# Altium footprint library 400150.PcbLib: 47 footprints (part 3 of 3)
Each footprint in its own frame and in the unit in brackets; x right, y up, seen from the top. Pads: shape width x height; smd on the part's side, far side on the other; paste and mask are expansions set on the pad; w line width, h text height; cw(c..) or ccw(c..) is an arc to the next point about the centre after c.
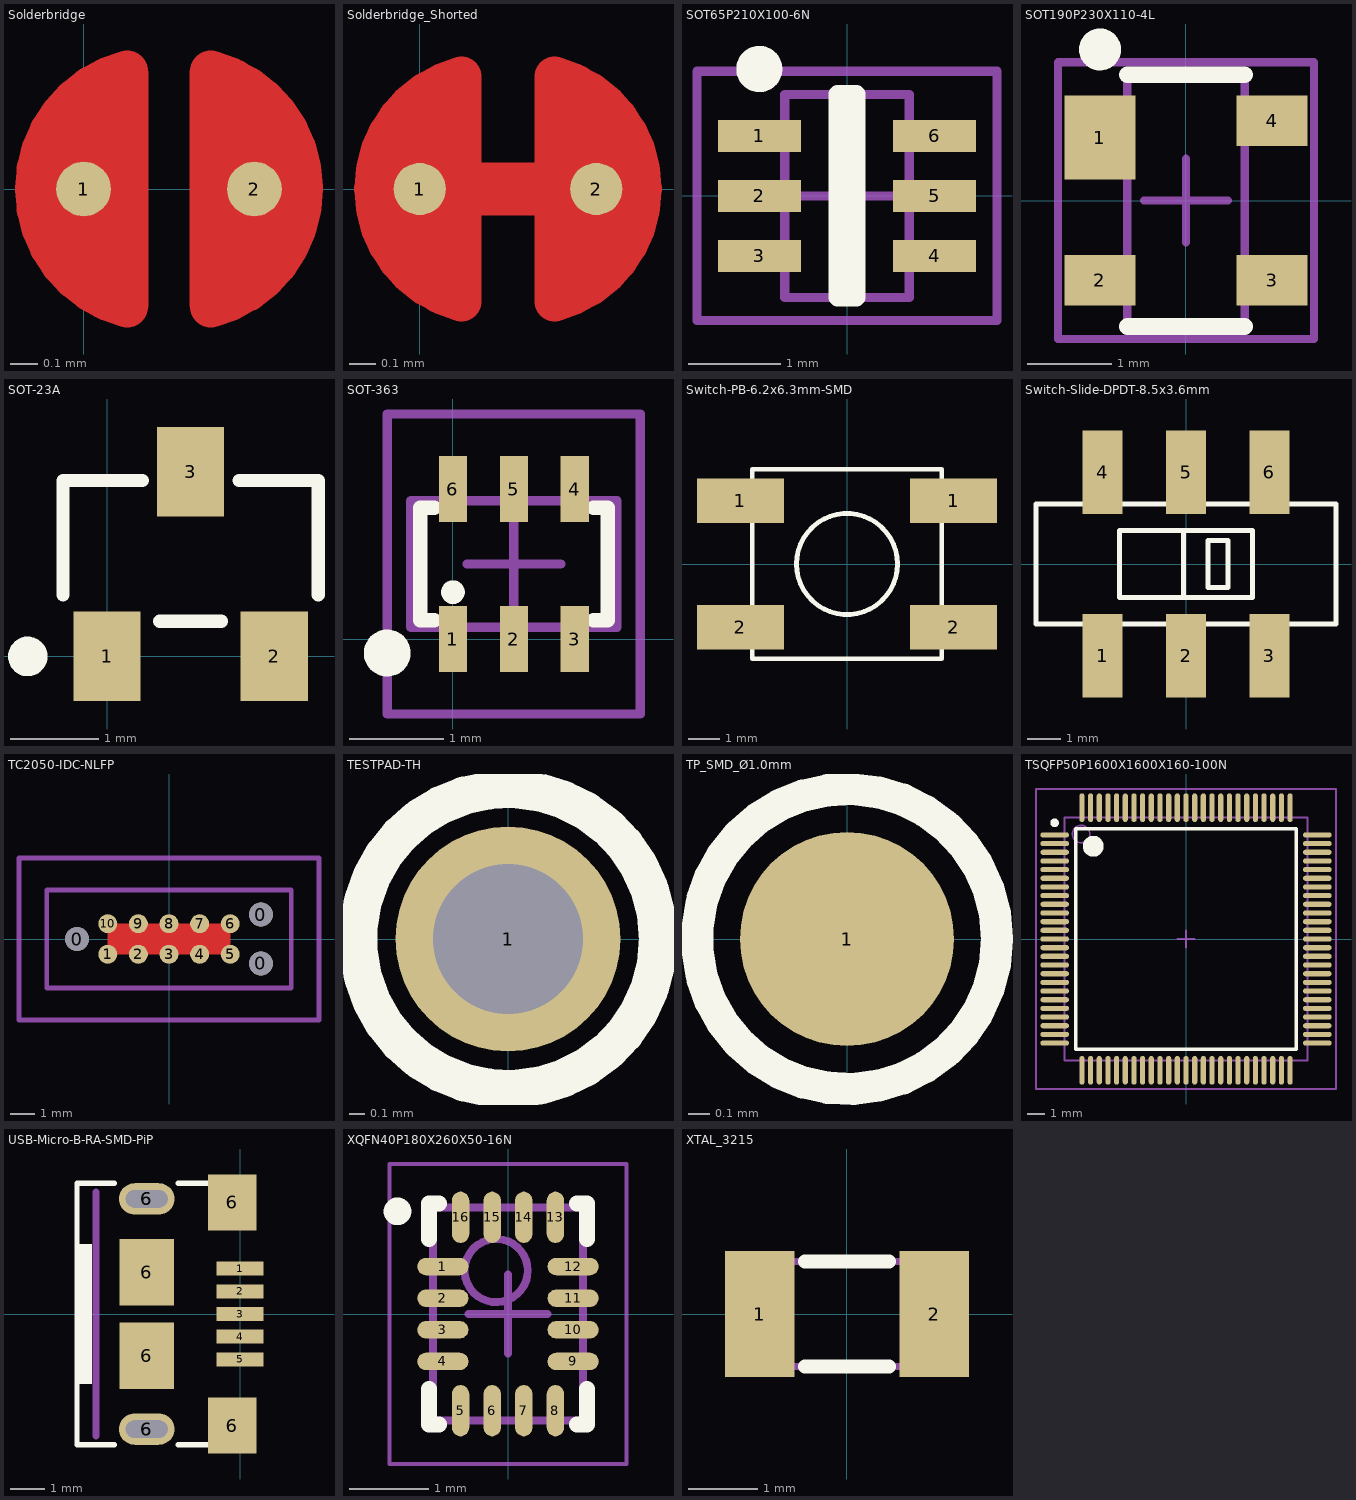
[diagram p2: the footprints below, top view; thin cyan lines are the x and y axes]

## Solderbridge [mm]
pads (2):
  round 0.2 smd paste-10: 1(0,0) 2(0.625,0)
Top Layer:
  region: 0.236,-0.432 0.16,-0.505 0.042,-0.467 -0.023,-0.424 -0.097,-0.351 -0.15,-0.292 -0.208,-0.193 -0.236,-0.099 -0.231,0.122 -0.206,0.193 -0.122,0.33 -0.038,0.411 0.054,0.469 0.155,0.5 0.206,0.483 0.236,0.43
  region: 0.389,0.432 0.465,0.505 0.583,0.467 0.648,0.424 0.721,0.351 0.775,0.292 0.833,0.193 0.861,0.099 0.856,-0.122 0.831,-0.193 0.747,-0.33 0.663,-0.411 0.571,-0.469 0.47,-0.5 0.419,-0.483 0.389,-0.43
  lines w0.152: 0.159,-0.431 cw(c0.27,0) -0.175,0 cw(c0.27,0) 0.025,0.371 cw(c0.27,0) 0.159,0.431 ; 0.465,-0.431 ccw(c0.355,0) 0.774,0.149 ccw(c0.355,0) 0.465,0.431
Top Solder:
  circle w0.61: c0.31,0 r0.279

## Solderbridge_Shorted [mm]
pads (2):
  round 0.2 smd paste-10: 1(0,0) 2(0.676,0)
Top Layer:
  region: 0.44,0.432 0.516,0.505 0.634,0.467 0.699,0.424 0.772,0.351 0.826,0.292 0.884,0.193 0.912,0.099 0.907,-0.122 0.881,-0.193 0.798,-0.33 0.714,-0.411 0.622,-0.469 0.521,-0.5 0.47,-0.483 0.44,-0.43
  region: 0.236,-0.432 0.16,-0.505 0.042,-0.467 -0.023,-0.424 -0.097,-0.351 -0.15,-0.292 -0.208,-0.193 -0.236,-0.099 -0.231,0.122 -0.206,0.193 -0.122,0.33 -0.038,0.411 0.054,0.469 0.155,0.5 0.206,0.483 0.236,0.43
  lines w0.152: 0.159,-0.431 cw(c0.27,0) 0.159,0.431 ; 0.516,-0.431 ccw(c0.406,0) 0.516,0.431
  lines w0.203: 0,0 0.676,0
Top Solder:
  circle w0.61: c0.31,0 r0.279
  circle w0.61: c0.366,0 r0.279

## SOT65P210X100-6N [mm]
pads (6):
  rect 0.9x0.35 smd: 1(-0.95,0.65) 2(-0.95,0) 3(-0.95,-0.65) 4(0.95,-0.65) 5(0.95,0) 6(0.95,0.65)
Top Overlay:
  circle w0.25: c-0.95,1.375 r0.125
  lines w0.2: -0.1,-1.1 -0.1,1.1 0.1,1.1 0.1,-1.1 -0.1,-1.1
Mechanical 13:
  lines w0.1: -0.675,-1.1 0.675,-1.1 0.675,1.1 -0.675,1.1 -0.675,-1.1
Mechanical 15:
  lines w0.1: -0.5,0 0.5,0 ; 0,-0.5 0,0.5 ; -1.625,-1.35 1.625,-1.35 1.625,1.35 -1.625,1.35 -1.625,-1.35
3D body: height 0.92, standoff -0.03, extent -1.05,-1 1.05,1

## SOT190P230X110-4L [mm]
pads (4):
  rect 0.85x1 smd: 1(-1.025,0.75)
  rect 0.85x0.6 smd: 2(-1.025,-0.95) 3(1.025,-0.95) 4(1.025,0.95)
Top Overlay:
  circle w0.25: c-1.025,1.8 r0.125
  lines w0.2: -0.7,-1.5 0.7,-1.5 ; -0.7,1.5 0.7,1.5
Mechanical 13:
  lines w0.1: -0.7,-1.5 -0.7,1.5 0.7,1.5 0.7,-1.5 -0.7,-1.5
Mechanical 15:
  lines w0.1: -0.5,0 0.5,0 ; 0,-0.5 0,0.5 ; -1.525,-1.65 -1.525,1.65 1.525,1.65 1.525,-1.65 -1.525,-1.65
3D body: height 1, standoff 0, extent -1.21,-1.46 1.21,1.46

## SOT-23A [mil]
pads (3):
  rect 30x40 smd: 1(0,0) 2(74.8,0) 3(37.4,82.68)
Top Overlay:
  circle w9.84: c-35.43,0 r3.94
  lines w5.91: -19.68,27.56 -19.68,78.74 15.75,78.74 ; 23.62,15.75 51.18,15.75 ; 59.06,78.74 94.49,78.74 94.49,27.56
3D body: height 39.37, standoff 0, extent -20.07,-4.72 94.89,87.41

## SOT-363 [mm]
pads (6):
  rect 0.3x0.7 smd: 1(0,0) 2(0.65,0) 3(1.3,0) 4(1.3,1.6) 5(0.65,1.6) 6(0,1.6)
Top Overlay:
  circle w0.152: c0,0.5 r0.05
  circle w0.25: c-0.7,-0.15 r0.125
  lines w0.152: -0.2,0.2 -0.35,0.2 -0.35,1.4 -0.2,1.4 ; 1.5,0.2 1.65,0.2 1.65,1.4 1.5,1.4
Mechanical 13:
  lines w0.1: -0.45,0.125 1.75,0.125 1.75,1.475 -0.45,1.475 -0.45,0.125
Mechanical 15:
  lines w0.1: 0.15,0.8 1.15,0.8 ; 0.65,0.3 0.65,1.3 ; -0.7,-0.8 2,-0.8 2,2.4 -0.7,2.4 -0.7,-0.8
3D body: height 0.93, standoff -0.02, extent -0.35,-0.25 1.65,1.85

## Switch-PB-6.2x6.3mm-SMD [mm]
pads (4):
  rect 2.75x1.4 smd: 1(-3.375,2) 1(3.375,2) 2(-3.375,-2) 2(3.375,-2)
Top Overlay:
  circle w0.152: c0,0 r1.601
  lines w0.152: -3,-3 3,-3 3,3 -3,3 -3,-3
3D body: height 3.1, standoff 0, extent -4,-3 4,3.3

## Switch-Slide-DPDT-8.5x3.6mm [mm]
pads (6):
  rect 1.2x2.5 smd: 1(-2.5,-2.75) 2(0,-2.75) 3(2.5,-2.75) 4(-2.5,2.75) 5(0,2.75) 6(2.5,2.75)
Top Overlay:
  lines w0.152: -0.08,-1 -0.08,1 ; 1.24,0.7 0.66,0.7 0.66,-0.7 1.26,-0.7 1.26,0.7 ; -4.5,-1.8 4.5,-1.8 4.5,1.8 -4.5,1.8 -4.5,-1.8 ; -2,-1 2,-1 2,1 -2,1 -2,-1
3D body: height 3.48, standoff 3, extent -2,1 2,1.8
3D body: height 3.48, standoff 3, extent -2,-1.8 2,-1
3D body: height 3.48, standoff 3, extent 2,-1.8 4.5,1.8
3D body: height 3.5, standoff 3.48, extent 2,-1 4.5,1
3D body: height 3.5, standoff 3.48, extent -4.5,-1.8 4.5,-1
3D body: height 3.5, standoff 3.48, extent -4.5,-1 -2,1
3D body: height 0.9, standoff 0, extent 2.2,-1.825 2.8,-1.675
3D body: height 0.15, standoff 0, extent 2.2,-3.75 2.8,-1.8
3D body: height 0.15, standoff 0, extent -0.3,-3.75 0.3,-1.8
3D body: height 0.9, standoff 0, extent -0.3,-1.825 0.3,-1.675
3D body: height 0.15, standoff 0, extent -2.8,-3.75 -2.2,-1.8
3D body: height 0.9, standoff 0, extent -2.8,-1.825 -2.2,-1.675
3D body: height 0.15, standoff 0, extent -4.2,1.2 -3.9,1.5
3D body: height 0.15, standoff 0, extent 3.9,1.2 4.2,1.5
3D body: height 0.15, standoff 0, extent 3.9,-1.5 4.2,-1.2
3D body: height 0.15, standoff 0, extent -4.2,-1.5 -3.9,-1.2
3D body: height 3, standoff 0.9, extent -4.5,-1.8 4.5,1.8
3D body: height 3.05, standoff 3, extent -2,-1 2,1
3D body: height 5.5, standoff 1.75, extent -0.08,-1 2,1
3D body: height 3.48, standoff 3, extent -4.5,-1.8 -2,1.8
3D body: height 3.5, standoff 2.63, extent 4.5,-1.2 4.52,1.2
3D body: height 2.63, standoff 1.75, extent 4.5,-1.7 4.52,1.7
3D body: height 2.63, standoff 1.75, extent -4.52,-1.7 -4.5,1.7
3D body: height 3.5, standoff 2.63, extent -4.52,-1.2 -4.5,1.2
3D body: height 0.9, standoff 0, extent 2.2,1.675 2.8,1.825
3D body: height 0.15, standoff 0, extent 2.2,1.8 2.8,3.75
3D body: height 0.9, standoff 0, extent -0.3,1.675 0.3,1.825
3D body: height 0.15, standoff 0, extent -0.3,1.8 0.3,3.75
3D body: height 3.5, standoff 3.48, extent -4.5,1 4.5,1.8
3D body: height 0.15, standoff 0, extent -2.8,1.8 -2.2,3.75
3D body: height 0.9, standoff 0, extent -2.8,1.675 -2.2,1.825
3D body: height 0.9, standoff 0.15, extent -4.3,-1.6 4.3,1.675

## TC2050-IDC-NLFP [mil]
pads (13):
  round 39 hole 39 unplated: 0(-150,0) 0(150,-40) 0(150,40)
  round 31 smd paste-196.85: 1(-100,-25) 2(-50,-25) 3(0,-25) 4(50,-25) 5(100,-25) 6(100,25) 7(50,25) 8(0,25) 9(-50,25) 10(-100,25)
Top Layer:
  pour cut-out: -100,25 -100,-25 100,-25 100,25
Mechanical 15:
  lines w7.87: -245,-132.5 -245,132.5 245,132.5 245,-132.5 -245,-132.5 ; -199.8,-79.92 -199.8,79.92 199.8,79.92 199.8,-79.92 -199.8,-79.92

## TESTPAD-TH [mm]
pads (1):
  round 1.5 hole 1: 1(0,0)
Top Overlay:
  circle w0.254: c0,0 r1

## TP_SMD_Ø1.0mm [mm]
pads (1):
  round 1 smd paste-5: 1(0,0)
Top Overlay:
  circle w0.15: c0,0 r0.7

## TSQFP50P1600X1600X160-100N [mm]
pads (100):
  oval 1.65x0.3 smd: 1(-7.575,6) 2(-7.575,5.5) 3(-7.575,5) 4(-7.575,4.5) 5(-7.575,4) 6(-7.575,3.5) 7(-7.575,3) 8(-7.575,2.5) 9(-7.575,2) 10(-7.575,1.5) 11(-7.575,1) 12(-7.575,0.5) 13(-7.575,0) 14(-7.575,-0.5) 15(-7.575,-1) 16(-7.575,-1.5) 17(-7.575,-2) 18(-7.575,-2.5) 19(-7.575,-3) 20(-7.575,-3.5) 21(-7.575,-4) 22(-7.575,-4.5) 23(-7.575,-5) 24(-7.575,-5.5) 25(-7.575,-6) 51(7.575,-6) 52(7.575,-5.5) 53(7.575,-5) 54(7.575,-4.5) 55(7.575,-4) 56(7.575,-3.5) 57(7.575,-3) 58(7.575,-2.5) 59(7.575,-2) 60(7.575,-1.5) 61(7.575,-1) 62(7.575,-0.5) 63(7.575,0) 64(7.575,0.5) 65(7.575,1) 66(7.575,1.5) 67(7.575,2) 68(7.575,2.5) 69(7.575,3) 70(7.575,3.5) 71(7.575,4) 72(7.575,4.5) 73(7.575,5) 74(7.575,5.5) 75(7.575,6)
  oval 0.3x1.65 smd: 26(-6,-7.575) 27(-5.5,-7.575) 28(-5,-7.575) 29(-4.5,-7.575) 30(-4,-7.575) 31(-3.5,-7.575) 32(-3,-7.575) 33(-2.5,-7.575) 34(-2,-7.575) 35(-1.5,-7.575) 36(-1,-7.575) 37(-0.5,-7.575) 38(0,-7.575) 39(0.5,-7.575) 40(1,-7.575) 41(1.5,-7.575) 42(2,-7.575) 43(2.5,-7.575) 44(3,-7.575) 45(3.5,-7.575) 46(4,-7.575) 47(4.5,-7.575) 48(5,-7.575) 49(5.5,-7.575) 50(6,-7.575) 76(6,7.575) 77(5.5,7.575) 78(5,7.575) 79(4.5,7.575) 80(4,7.575) 81(3.5,7.575) 82(3,7.575) 83(2.5,7.575) 84(2,7.575) 85(1.5,7.575) 86(1,7.575) 87(0.5,7.575) 88(0,7.575) 89(-0.5,7.575) 90(-1,7.575) 91(-1.5,7.575) 92(-2,7.575) 93(-2.5,7.575) 94(-3,7.575) 95(-3.5,7.575) 96(-4,7.575) 97(-4.5,7.575) 98(-5,7.575) 99(-5.5,7.575) 100(-6,7.575)
Top Overlay:
  circle w0.6: c-5.35,5.35 r0.3
  circle w0.25: c-7.575,6.7 r0.125
  lines w0.2: -6.35,-6.35 6.35,-6.35 6.35,6.35 -6.35,6.35 -6.35,-6.35
Mechanical 13:
  circle w0.1: c-6.05,6.05 r0.5
  lines w0.1: -7,-7 7,-7 7,7 -7,7 -7,-7
Mechanical 15:
  lines w0.1: -0.5,0 0.5,0 ; 0,-0.5 0,0.5 ; -8.65,-8.65 8.65,-8.65 8.65,8.65 -8.65,8.65 -8.65,-8.65
3D body: height 1.6, standoff 0, extent -8.001,-8 7.999,8

## USB-Micro-B-RA-SMD-PiP [mm]
pads (13):
  rect 1.35x0.4 smd: 1(0,1.3) 2(0,0.65) 3(0,0) 4(0,-0.65) 5(0,-1.3)
  oval 1.6x0.9 hole 0.5 slot 1.2 at 0 deg: 6(-2.675,-3.3) 6(-2.675,3.3)
  oval 2x1.5 on Top Paste: 6(-2.675,-3.3) 6(-2.675,3.3)
  rect 1.55x1.9 smd: 6(-2.675,-1.2) 6(-2.675,1.2)
  rect 1.4x1.6 smd: 6(-0.225,-3.2) 6(-0.225,3.2)
Top Overlay:
  rectangle: -4.75,-2 -4.25,2
  lines w0.152: -3.6,-3.75 -4.675,-3.75 -4.675,3.75 -3.6,3.75 ; -1.775,-3.75 0.25,-3.75 0.25,-3.275 ; -1.775,3.75 0.25,3.75 0.25,3.275
Mechanical 15:
  lines w0.2: -4.125,-3.5 -4.125,3.5
3D body: height 2.72, standoff -0.59, extent -5.28,-4.1 0.15,4.1

## XQFN40P180X260X50-16N [mm]
pads (16):
  oval 0.65x0.22 smd paste-0.02 mask+0.062: 1(-0.825,0.6) 2(-0.825,0.2) 3(-0.825,-0.2) 4(-0.825,-0.6) 9(0.825,-0.6) 10(0.825,-0.2) 11(0.825,0.2) 12(0.825,0.6)
  oval 0.22x0.65 smd paste-0.02 mask+0.062: 5(-0.6,-1.225) 6(-0.2,-1.225) 7(0.2,-1.225) 8(0.6,-1.225) 13(0.6,1.225) 14(0.2,1.225) 15(-0.2,1.225) 16(-0.6,1.225)
Top Overlay:
  circle w0.25: c-1.4,1.3 r0.05
  lines w0.2: -1,-0.95 -1,-1.4 -0.875,-1.4 ; -1,0.95 -1,1.4 -0.875,1.4 ; 0.875,-1.4 1,-1.4 1,-0.95 ; 0.875,1.4 1,1.4 1,0.95
Mechanical 13:
  circle w0.1: c-0.15,0.55 r0.4
  lines w0.1: -0.95,-1.35 -0.95,1.35 0.95,1.35 0.95,-1.35 -0.95,-1.35
Mechanical 15:
  lines w0.05: -1.5,-1.9 -1.5,1.9 1.5,1.9 1.5,-1.9 -1.5,-1.9
  lines w0.1: -0.5,0 0.5,0 ; 0,-0.5 0,0.5
3D body: height 0.55, standoff 0, extent -0.91,-1.31 0.91,1.31
3D body: height 0.55, standoff 0.4, extent -0.9,-0.35 0.9,0.35

## XTAL_3215 [mm]
pads (2):
  rect 1x1.8 smd: 1(-1.25,0) 2(1.25,0)
Top Overlay:
  lines w0.2: -0.6,-0.75 0.6,-0.75 ; -0.6,0.75 0.6,0.75
Mechanical 3:
  lines w0.1: -1.6,-0.55 cw(c-1.6,-0.75) -1.4,-0.75 1.4,-0.75 cw(c1.6,-0.75) 1.6,-0.55 1.6,0.55 cw(c1.6,0.75) 1.4,0.75 -1.4,0.75 cw(c-1.6,0.75) -1.6,0.55 -1.6,-0.55
3D body: height 0.81, standoff 0, extent -1.6,-0.75 1.6,0.75
3D body: height 0.81, standoff 0.15, extent -1.2,-0.6 1.2,0.6